# Altium footprint library PcbLib1.PcbLib: 6 footprints
Each footprint in its own frame and in the unit in brackets; x right, y up, seen from the top. Pads: shape width x height; smd on the part's side, far side on the other; paste and mask are expansions set on the pad; w line width, h text height; cw(c..) or ccw(c..) is an arc to the next point about the centre after c.
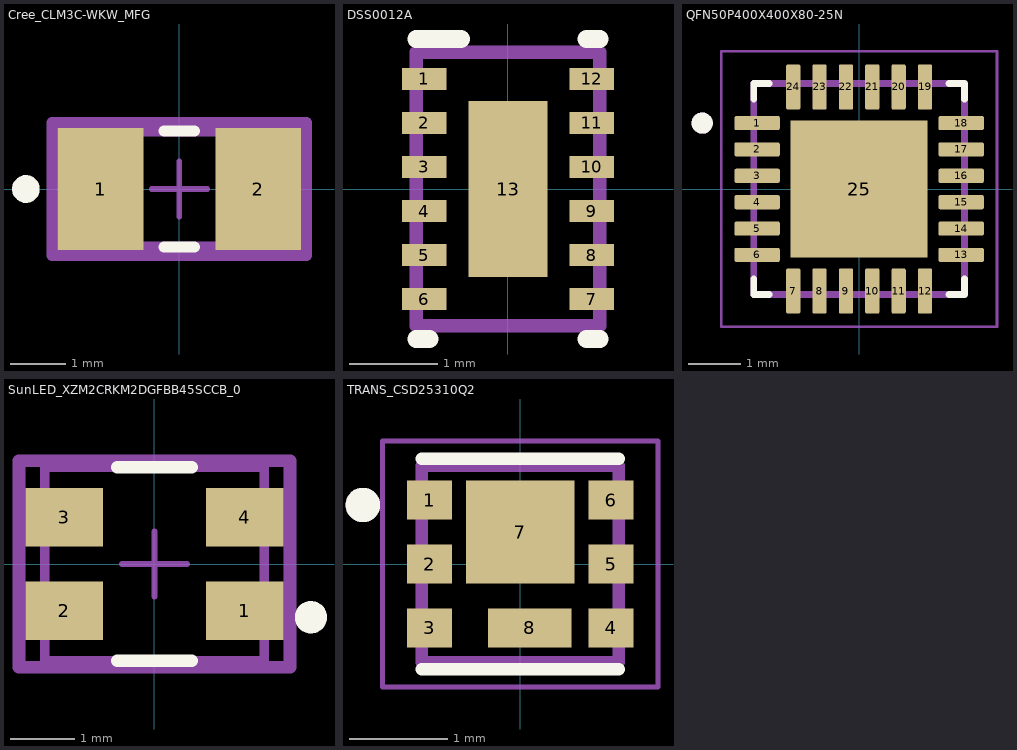
[diagram p0: the footprints below, top view; thin cyan lines are the x and y axes]

## Cree_CLM3C-WKW_MFG [mm]
pads (2):
  rect 1.55x2.2 smd paste+0 mask+0: 1(-1.425,0) 2(1.425,0)
Top Overlay:
  circle w0.25: c-2.775,0 r0.125
  lines w0.2: -0.275,-1.05 0.275,-1.05 ; -0.275,1.05 0.275,1.05
Mechanical 10:
  lines w0.2: -2.3,-1.2 -2.3,1.2 2.3,1.2 2.3,-1.2 -2.3,-1.2
  text ".Designator" at 0,0 h1
Mechanical 12:
  lines w0.2: -1.4,-1.05 -1.4,1.05 1.4,1.05 1.4,-1.05 -1.4,-1.05
Mechanical 15:
  lines w0.1: -0.5,0 0.5,0 ; 0,-0.5 0,0.5
  lines w0.2: -2.3,-1.2 -2.3,1.2 2.3,1.2 2.3,-1.2 -2.3,-1.2
3D body "Diode_Cree_CLM3C-WKW-CWBYA453_eec.STEP": height 0.25, standoff 0, extent -2.3,-1.2 2.3,1.2

## DSS0012A [mm]
pads (13):
  rect 0.5x0.25 smd: 1(-0.95,1.25) 2(-0.95,0.75) 3(-0.95,0.25) 4(-0.95,-0.25) 5(-0.95,-0.75) 6(-0.95,-1.25) 7(0.95,-1.25) 8(0.95,-0.75) 9(0.95,-0.25) 10(0.95,0.25) 11(0.95,0.75) 12(0.95,1.25)
  rect 0.9x2 smd: 13(0,0)
Top Overlay:
  lines w0.203: -1.041,-1.702 -0.889,-1.702 ; -1.041,1.702 -0.533,1.702 ; 0.889,-1.702 1.041,-1.702 ; 0.889,1.702 1.041,1.702
Top Paste:
  region: 0.427,-0.894 -0.427,-0.894 -0.427,0.895 0.427,0.895
Mechanical 13:
  lines w0.152: -1.041,-1.549 1.041,-1.549 1.041,1.549 -1.041,1.549 -1.041,-1.549
  text ".Designator" at -0.889,-1.397 h1.27

## PCBComponent_1 [mm]

## QFN50P400X400X80-25N [mm]
pads (25):
  rrect25% 0.86x0.27 smd: 1(-1.935,1.25) 2(-1.935,0.75) 3(-1.935,0.25) 4(-1.935,-0.25) 5(-1.935,-0.75) 6(-1.935,-1.25) 13(1.935,-1.25) 14(1.935,-0.75) 15(1.935,-0.25) 16(1.935,0.25) 17(1.935,0.75) 18(1.935,1.25)
  rrect25% 0.27x0.86 smd: 7(-1.25,-1.935) 8(-0.75,-1.935) 9(-0.25,-1.935) 10(0.25,-1.935) 11(0.75,-1.935) 12(1.25,-1.935) 19(1.25,1.935) 20(0.75,1.935) 21(0.25,1.935) 22(-0.25,1.935) 23(-0.75,1.935) 24(-1.25,1.935)
  rect 2.6x2.6 smd paste-2: 25(0,0)
Top Overlay:
  circle w0.2: c-2.975,1.25 r0.1
  lines w0.127: -2,-1.705 -2,-2 -1.705,-2 ; -2,1.705 -2,2 -1.705,2 ; 1.705,-2 2,-2 2,-1.705 ; 1.705,2 2,2 2,1.705
Top Paste:
  region: 0.82,-0.82 -0.82,-0.82 -0.82,0.82 0.82,0.82
Mechanical 13:
  circle w0.2: c-2.975,1.25 r0.1
  lines w0.127: -2,-2 -2,2 2,2 2,-2 -2,-2
Mechanical 15:
  lines w0.05: -2.615,-2.615 -2.615,2.615 2.615,2.615 2.615,-2.615 -2.615,-2.615
3D body "step_temp.STEP": height 0.8, standoff 0, extent -2,-2 2,2

## SunLED_XZM2CRKM2DGFBB45SCCB_0 [mm]
pads (4):
  rect 1.2x0.9 smd paste+0 mask+0: 1(1.4,-0.725) 2(-1.4,-0.725) 3(-1.4,0.725) 4(1.4,0.725)
Top Overlay:
  circle w0.25: c2.425,-0.825 r0.125
  lines w0.2: -0.575,-1.5 0.575,-1.5 ; -0.575,1.5 0.575,1.5
Mechanical 10:
  lines w0.2: -2.1,-1.6 -2.1,1.6 2.1,1.6 2.1,-1.6 -2.1,-1.6
  text ".Designator" at -2.286,2.032 h1
Mechanical 12:
  lines w0.15: -1.7,-1.5 -1.7,1.5 1.7,1.5 1.7,-1.5 -1.7,-1.5
Mechanical 15:
  lines w0.1: -0.5,0 0.5,0 ; 0,-0.5 0,0.5
  lines w0.2: -2.1,-1.6 -2.1,1.6 2.1,1.6 2.1,-1.6 -2.1,-1.6
3D body "Diode_SunLED_XZM2CRKM2DGFBB45SCCB_eec.STEP": height 0.25, standoff 0, extent -2.1,-1.6 2.1,1.6

## TRANS_CSD25310Q2 [mm]
pads (8):
  rect 0.455x0.4 smd paste-1: 1(-0.923,0.65) 2(-0.923,0) 3(-0.923,-0.65) 4(0.923,-0.65) 5(0.923,0) 6(0.923,0.65)
  rect 1.1x1.05 smd paste-2: 7(0,0.325)
  rect 0.85x0.4 smd paste-1: 8(0.096,-0.65)
Top Overlay:
  circle w0.25: c-1.6,0.6 r0.05
  lines w0.127: -1,-1.07 1,-1.07 ; -1,1.07 1,1.07
Top Paste:
  region: 0.246,-1.015 -0.054,-1.015 -0.054,-0.285 0.246,-0.285
  region: 0.475,-0.175 -0.475,-0.175 -0.475,0.825 0.475,0.825
  region: -0.773,-0.82 -1.072,-0.82 -1.072,-0.48 -0.773,-0.48
  region: -0.773,-0.17 -1.072,-0.17 -1.072,0.17 -0.773,0.17
  region: -0.773,0.48 -1.072,0.48 -1.072,0.82 -0.773,0.82
  region: 1.072,-0.82 0.773,-0.82 0.773,-0.48 1.072,-0.48
  region: 1.072,0.48 0.773,0.48 0.773,0.82 1.072,0.82
  region: 1.072,-0.17 0.773,-0.17 0.773,0.17 1.072,0.17
Mechanical 13:
  circle w0.25: c-1.6,0.6 r0.05
  lines w0.127: -1,-1 -1,1 1,1 1,-1 -1,-1
Mechanical 15:
  lines w0.05: -1.4,-1.25 -1.4,1.25 1.4,1.25 1.4,-1.25 -1.4,-1.25